# Altium schematic symbol library richtek-pmic.SchLib: 4 symbols
Pins are listed as number, name and electrical type; pins without a type are passive.

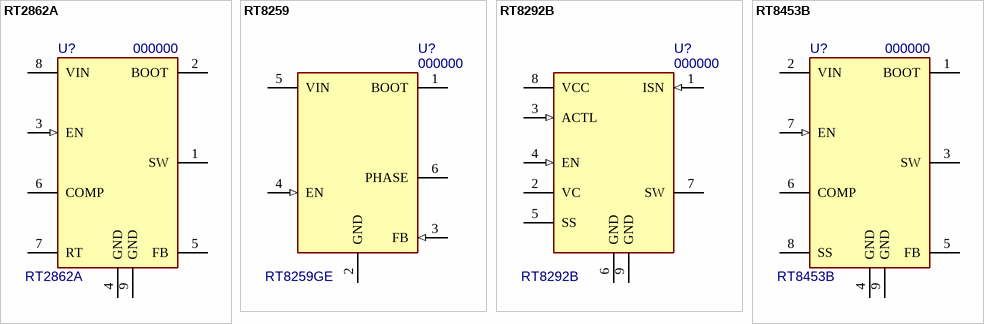
[diagram p0: symbols RT2862A to RT8453B]

## RT2862A
designator U?, comment 000000  value RT2862A
3A, 36V Synchronous Step-Down Converter; MF: Richtek; MF PN: RT2862AGSP; PN: 000000; Package: 8-SOP; ExtraInfo: *; Digi-Key PN: 1028-1372-1-ND; Price: 1.34521
footprint 8-SOP-EP (SOP, 8-Leads, Body 5.0x4.0mm (max), Pitch 1.27mm, IPC High Density)
pins: 1 SW (oc), 2 BOOT, 3 EN (in), 4 GND (power), 5 FB, 6 COMP, 7 RT, 8 VIN (power), 9 GND (power)

## RT8259
designator U?, comment 000000  value RT8259GE
1.2A, 24V, 1.4MHz Step-Down Converter; MF: Richtek; PN: 000000; Package: SOT-23-5; ExtraInfo: *
footprint SOT23-6-H (6-Lead Plastic Small Outline Transistor - High Density)
pins: 1 BOOT (oc), 2 GND (power), 3 FB (in), 4 EN (in), 5 VIN (power), 6 PHASE (oc)

## RT8292B
designator U?, comment 000000  value RT8292B
1.5A, 500kHz, 40V High Voltage Buck LED Driver; MF: Richtek; PN: 000000; Package: SOT-23-5; ExtraInfo: *
footprint 8-SOP-EP (SOP, 8-Leads, Body 5.0x4.0mm (max), Pitch 1.27mm, IPC High Density)
pins: 1 ISN (in), 2 VC, 3 ACTL (in), 4 EN (in), 5 SS, 6 GND (power), 7 SW (oc), 8 VCC (power), 9 GND (power)

## RT8453B
designator U?, comment 000000  value RT8453B
2A, 23V Synchronous Step-Down Converter; MF: Richtek; PN: 000000; Package: 8-SOP; ExtraInfo: *
footprint 8-SOP-EP (SOP, 8-Leads, Body 5.0x4.0mm (max), Pitch 1.27mm, IPC High Density)
pins: 1 BOOT, 2 VIN (power), 3 SW (oc), 4 GND (power), 5 FB, 6 COMP, 7 EN (in), 8 SS, 9 GND (power)